# Altium schematic symbol library Display.SchLib: 2 symbols
Pins are listed as number, name and electrical type; pins without a type are passive.

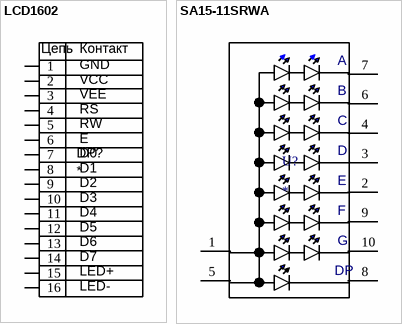
[diagram p0: symbols LCD1602 to SA15-11SRWA]

## LCD1602
designator DP?
footprint LCD1602
footprint LCD1602womodel
pins: 1, 2, 3, 4, 5, 6, 7, 8, 9, 10, 11, 12, 13, 14, 15, 16
text: Цепь; Контакт; GND; VCC; VEE; RS; RW; E; D0; D1; D2; D3; D4; D5; D6; D7; LED+; LED-

## SA15-11SRWA
designator U?
MP: SA15-11SRWA; Package: None; Price: None; Value: *; Availability: Unavailable
footprint LED_SA15-11SRWA
pins: 1 CA1, 2 E, 3 D, 4 C, 5 CA2, 6 B, 7 A, 8 DP, 9 F, 10 G